# Altium footprint library MCU.PcbLib: 11 footprints
Each footprint in its own frame and in the unit in brackets; x right, y up, seen from the top. Pads: shape width x height; smd on the part's side, far side on the other; paste and mask are expansions set on the pad; w line width, h text height; cw(c..) or ccw(c..) is an arc to the next point about the centre after c.
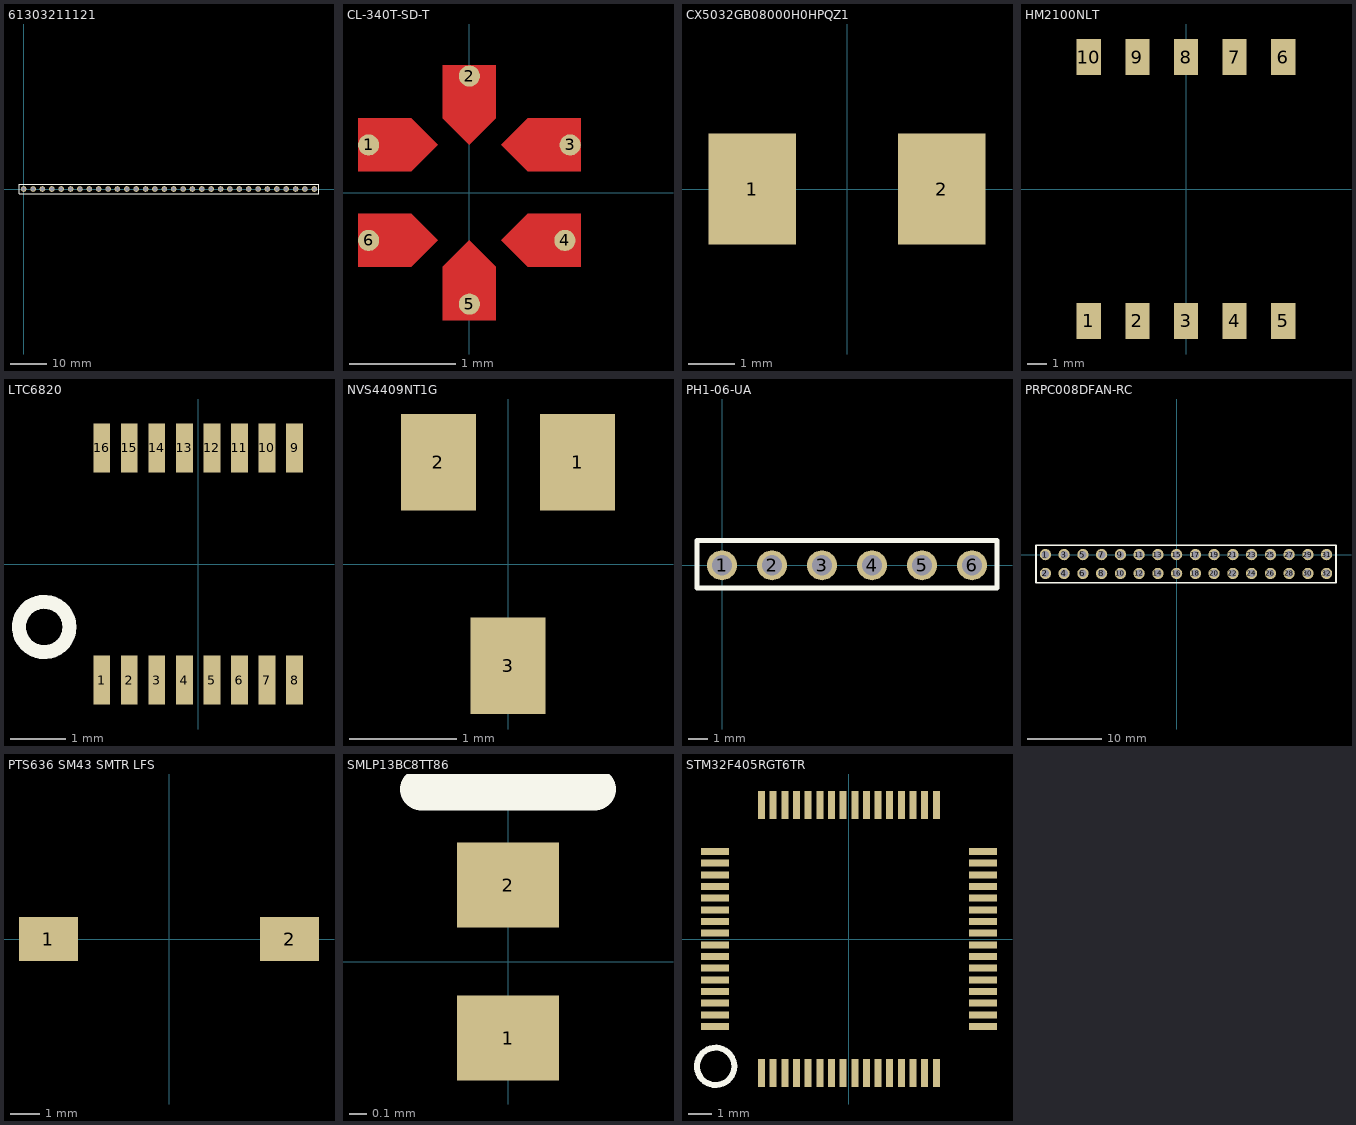
[diagram p0: the footprints below, top view; thin cyan lines are the x and y axes]

## 61303211121 [mil]
pads (32):
  round 60 hole 43.31: 1(0,0) 2(100,0) 3(200,0) 4(300,0) 5(400,0) 6(500,0) 7(600,0) 8(700,0) 9(800,0) 10(900,0) 11(1000,0) 12(1100,0) 13(1200,0) 14(1300,0) 15(1400,0) 16(1500,0) 17(1600,0) 18(1700,0) 19(1800,0) 20(1900,0) 21(2000,0) 22(2100,0) 23(2200,0) 24(2300,0) 25(2400,0) 26(2500,0) 27(2600,0) 28(2700,0) 29(2800,0) 30(2900,0) 31(3000,0) 32(3100,0)
Top Overlay:
  lines w10: -50,-50 3150,-50 3150,50 -50,50 -50,0 -50,-50

## CL-340T-SD-T [mm]
pads (6):
  round 0.2 smd: 1(-0.95,0.45) 2(0,1.1) 3(0.95,0.45) 4(0.9,-0.45) 5(0,-1.05) 6(-0.95,-0.45)
Top Layer:
  region: 1.143,0.254
  region: 1.778,0
  region: 0.25,1.2 0.25,0.7 0,0.45 -0.25,0.7 -0.25,1.2
  region: -0.25,-1.2 -0.25,-0.7 0,-0.45 0.25,-0.7 0.25,-1.2
  region: -1.05,-0.2 -0.55,-0.2 -0.3,-0.45 -0.55,-0.7 -1.05,-0.7
  region: 1.05,-0.7 0.55,-0.7 0.3,-0.45 0.55,-0.2 1.05,-0.2
  region: -1.05,0.7 -0.55,0.7 -0.3,0.45 -0.55,0.2 -1.05,0.2
  region: 1.05,0.2 0.55,0.2 0.3,0.45 0.55,0.7 1.05,0.7
Top Overlay:
  region: -0.381,1.27
3D body: height 0.35, standoff 0, extent -0.75,-0.8 0.65,0.9

## CX5032GB08000H0HPQZ1 [mm]
pads (2):
  rect 1.9x2.4 smd: 1(-2.05,0) 2(2.05,0)
3D body: height 1.1, standoff 0, extent -2.5,-1.6 2.5,1.6

## HM2100NLT [mm]
pads (10):
  rect 1.27x1.89 smd: 1(-5.08,-6.895) 2(-2.54,-6.895) 3(0,-6.895) 4(2.54,-6.895) 5(5.08,-6.895) 6(5.08,6.895) 7(2.54,6.895) 8(0,6.895) 9(-2.54,6.895) 10(-5.08,6.895)
3D body: height 3.45, standoff 0, extent -7.366,-5.842 7.366,5.842

## LTC6820 [mm]
pads (16):
  rect 0.305x0.889 smd: 1(-1.75,-2.106) 2(-1.25,-2.106) 3(-0.75,-2.106) 4(-0.25,-2.106) 5(0.25,-2.106) 6(0.75,-2.106) 7(1.25,-2.106) 8(1.75,-2.106) 9(1.75,2.106) 10(1.25,2.106) 11(0.75,2.106) 12(0.25,2.106) 13(-0.25,2.106) 14(-0.75,2.106) 15(-1.25,2.106) 16(-1.75,2.106)
Top Overlay:
  circle w0.254: c-2.794,-1.143 r0.458
3D body: height 1.1, standoff 0, extent -2.032,-1.524 2.032,1.524

## NVS4409NT1G [mm]
pads (3):
  rect 0.7x0.9 smd: 1(0.65,0.95) 2(-0.65,0.95) 3(0,-0.95)
3D body: height 0.9, standoff 0, extent -1.05,-0.62 1.05,0.62

## PH1-06-UA [mil]
pads (6):
  round 60 hole 40.16: 1(0,0) 2(100,0) 3(200,0) 4(300,0) 5(400,0) 6(500,0)
Top Overlay:
  lines w10: -50,-45 45,-45 550,-45 550,50 -50,50 -50,-45

## PRPC008DFAN-RC [mil]
pads (32):
  round 60 hole 39.37: 1(-700,0) 2(-700,-100) 3(-600,0) 4(-600,-100) 5(-500,0) 6(-500,-100) 7(-400,0) 8(-400,-100) 9(-300,0) 10(-300,-100) 11(-200,0) 12(-200,-100) 13(-100,0) 14(-100,-100) 15(0,0) 16(0,-100) 17(100,0) 18(100,-100) 19(200,0) 20(200,-100) 21(300,0) 22(300,-100) 23(400,0) 24(400,-100) 25(500,0) 26(500,-100) 27(600,0) 28(600,-100) 29(700,0) 30(700,-100) 31(800,0) 32(800,-100)
Top Overlay:
  lines w10: -750,-150 850,-150 850,50 -750,50 -750,-150

## PTS636 SM43 SMTR LFS [mm]
pads (2):
  rect 2x1.5 smd: 1(-4.1,0) 2(4.1,0)
3D body: height 4.3, standoff 0, extent -3,-1.75 3,1.75
3D body: height 0.25, standoff -2, extent 2.95,2.85 2.95,2.85

## SMLP13BC8TT86 [mm]
pads (2):
  rect 0.6x0.5 smd: 1(0,-0.45) 2(0,0.45)
Top Overlay:
  lines w0.254: -0.508,1.016 0.508,1.016
3D body: height 0.2, standoff 0, extent -0.3,-0.5 0.3,0.5

## STM32F405RGT6TR [mm]
pads (64):
  rect 0.3x1.2 smd: 1(-3.75,-5.75) 2(-3.25,-5.75) 3(-2.75,-5.75) 4(-2.25,-5.75) 5(-1.75,-5.75) 6(-1.25,-5.75) 7(-0.75,-5.75) 8(-0.25,-5.75) 9(0.25,-5.75) 10(0.75,-5.75) 11(1.25,-5.75) 12(1.75,-5.75) 13(2.25,-5.75) 14(2.75,-5.75) 15(3.25,-5.75) 16(3.75,-5.75) 33(3.75,5.75) 34(3.25,5.75) 35(2.75,5.75) 36(2.25,5.75) 37(1.75,5.75) 38(1.25,5.75) 39(0.75,5.75) 40(0.25,5.75) 41(-0.25,5.75) 42(-0.75,5.75) 43(-1.25,5.75) 44(-1.75,5.75) 45(-2.25,5.75) 46(-2.75,5.75) 47(-3.25,5.75) 48(-3.75,5.75)
  rect 1.2x0.3 smd: 17(5.75,-3.75) 18(5.75,-3.25) 19(5.75,-2.75) 20(5.75,-2.25) 21(5.75,-1.75) 22(5.75,-1.25) 23(5.75,-0.75) 24(5.75,-0.25) 25(5.75,0.25) 26(5.75,0.75) 27(5.75,1.25) 28(5.75,1.75) 29(5.75,2.25) 30(5.75,2.75) 31(5.75,3.25) 32(5.75,3.75) 49(-5.75,3.75) 50(-5.75,3.25) 51(-5.75,2.75) 52(-5.75,2.25) 53(-5.75,1.75) 54(-5.75,1.25) 55(-5.75,0.75) 56(-5.75,0.25) 57(-5.75,-0.25) 58(-5.75,-0.75) 59(-5.75,-1.25) 60(-5.75,-1.75) 61(-5.75,-2.25) 62(-5.75,-2.75) 63(-5.75,-3.25) 64(-5.75,-3.75)
Top Overlay:
  circle w0.254: c-5.715,-5.461 r0.8
Mechanical 1:
  region: -4.826,4.953
3D body: height 1.6, standoff 0, extent -4.826,-4.889 4.826,4.889